# EAGLE library part TPIC2810 (library ti)
LED DRVR 3V to 5,5V, 8 LEDs LED Treiber mit I2C und 8 Ausgängen Package: SOIC16 RS Nr.: 660-7981 Hersteller: Texas Instruments Hersteller Nr.: TPIC2810DG4
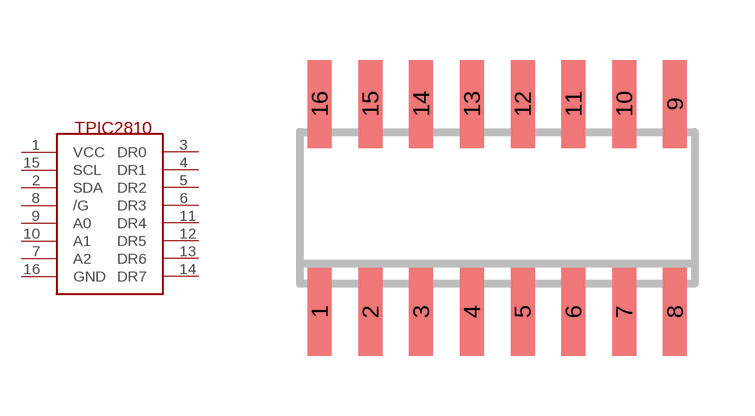
[diagram p5: symbol with the pads of SO16; footprint SO16]

Designator prefix -

## TPIC2810  [SO16]
1  VCC
2  SDA
3  DR0
4  DR1
5  DR2
6  DR3
7  A2
8  /G
9  A0
10  A1
11  DR4
12  DR5
13  DR6
14  DR7
15  SCL
16  GND

## Footprint SO16 (pad centres in mm)
SMALL OUTLINE INTEGRATED CIRCUIT body 3.9 mm/JEDEC MS-012AC
smd 0.6 x 2.2: 1 -4.445,-2.6; 2 -3.175,-2.6; 3 -1.905,-2.6; 4 -0.635,-2.6; 5 0.635,-2.6; 6 1.905,-2.6; 7 3.175,-2.6; 8 4.445,-2.6; 9 4.445,2.6; 10 3.175,2.6; 11 1.905,2.6; 12 0.635,2.6; 13 -0.635,2.6; 14 -1.905,2.6; 15 -3.175,2.6; 16 -4.445,2.6